# EAGLE library part BQ24133 (library CougsInSpace)
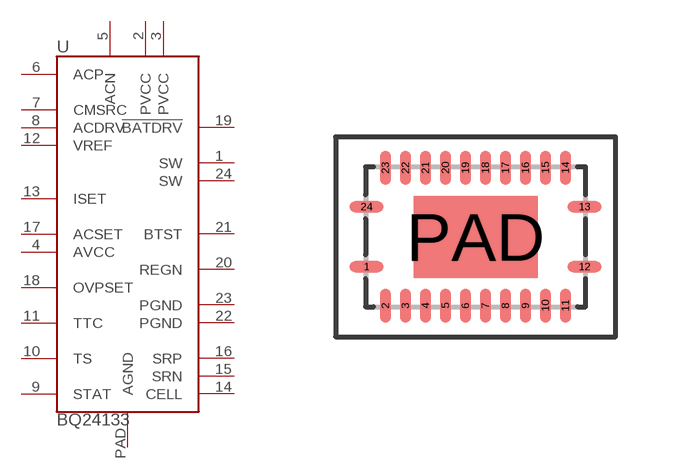
[diagram p30: symbol with the pads of QFN24-3.5X5.5; footprint QFN24-3.5X5.5]

Designator prefix U

## BQ24133  [QFN24-3.5X5.5]
1  SW  pwr
2  PVCC  pwr
3  PVCC  pwr
4  AVCC  pwr
5  ACN  in
6  ACP  pwr
7  CMSRC  out
8  ACDRV  out
9  STAT  out
10  TS  in
11  TTC  in
12  VREF  pwr
13  ISET  in
14  CELL  in
15  SRN  in
16  SRP  pwr
17  ACSET  in
18  OVPSET  in
19  !BATDRV  out
20  REGN  pwr
21  BTST  pwr
22  PGND  pwr
23  PGND  pwr
24  SW  pwr
PAD  AGND  pwr

## Footprint QFN24-3.5X5.5 (pad centres in mm)
smd 0.85 x 0.28: 1 -2.725,-0.75; 12 2.725,-0.75; 13 2.725,0.75; 24 -2.725,0.75
smd 0.28 x 0.85: 2 -2.25,-1.725; 3 -1.75,-1.725; 4 -1.25,-1.725; 5 -0.75,-1.725; 6 -0.25,-1.725; 7 0.25,-1.725; 8 0.75,-1.725; 9 1.25,-1.725; 10 1.75,-1.725; 11 2.25,-1.725; 14 2.25,1.725; 15 1.75,1.725; 16 1.25,1.725; 17 0.75,1.725; 18 0.25,1.725; 19 -0.25,1.725; 20 -0.75,1.725; 21 -1.25,1.725; 22 -1.75,1.725; 23 -2.25,1.725
smd 3.1 x 2.05: PAD 0,0